# EAGLE library part L5970D (library ST_Microelctronics_By_element14_Batch_1)
switching regulator
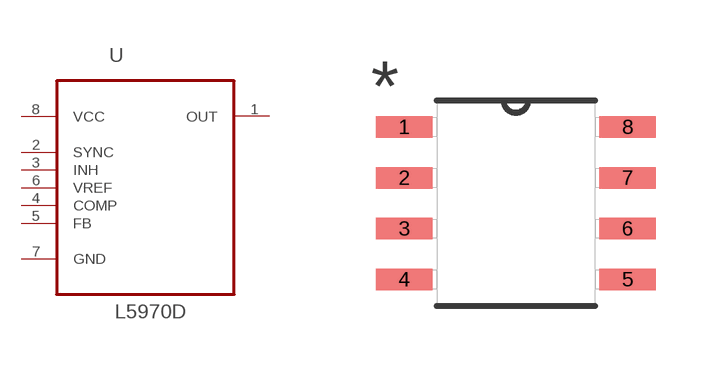
[diagram p41: symbol with the pads of SOIC127P600X175-8N; footprint SOIC127P600X175-8N]

Designator prefix U

## L5970D (MPN: L5970D; OC_FARNELL: 1077141; OC_NEWARK: 25M9045; PACKAGE: SOIC-8; SUPPLIER: STMICROELECTRONICS)  [SOIC127P600X175-8N]
1  OUT  out
2  SYNC  in
3  INH  in
4  COMP  in
5  FB  in
6  VREF  pas
7  GND  pas
8  VCC  pwr

## Footprint SOIC127P600X175-8N (pad centres in mm)
smd 1.422 x 0.533: 1 -2.794,1.905; 2 -2.794,0.635; 3 -2.794,-0.635; 4 -2.794,-1.905; 5 2.794,-1.905; 6 2.794,-0.635; 7 2.794,0.635; 8 2.794,1.905